# Altium schematic symbol library CR0603-FX-51R0ELF.SchLib: 1 symbol
Pins are listed as number, name and electrical type; pins without a type are passive.

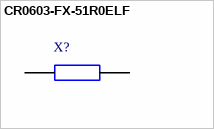
[diagram p0: symbol CR0603-FX-51R0ELF]

## CR0603-FX-51R0ELF
designator X?
BOURNS - CR0603-FX-51R0ELF - RES, 51R, 1%, 0603, THICK FILM; Geometry.Height: 0.55mm; Mouser Part Number: 652-CR0603FX-51R0ELF; Mouser Price/Stock: https://www.mouser.co.uk/ProductDetail/Bourns/CR0603-FX-51R0ELF/?qs=0nF2VnfAjXm8gQpP7vsFGw%3D%3D; Manufacturer_Name: Bourns; Manufacturer_Part_Number: CR0603-FX-51R0ELF; Datasheet Link: https://www.bourns.com/pdfs/chpreztr.pdf
footprint RESC1608X55N
pins: 1, 2